# Altium schematic symbol library Dual_Schottky_AKS.SchLib: 1 symbol
Pins are listed as number, name and electrical type; pins without a type are passive.

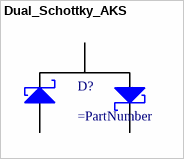
[diagram p0: symbol Dual_Schottky_AKS]

## Dual_Schottky_AKS
designator D?
pins: 1 A, 2 K, 3 S